# Altium schematic symbol library Hole.SchLib: 3 symbols
Pins are listed as number, name and electrical type; pins without a type are passive.

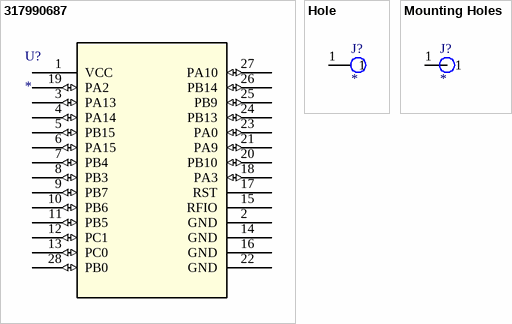
[diagram p0: symbols 317990687 to Mounting Holes]

## 317990687
designator U?
No Description Available; Mfr_Name: BeagleBoard; RefDes: RefDes; Type: Type
footprint QFN_90687_SEE
pins: 1 VCC (power), 2 GND (power), 3 PA13 (io), 4 PA14 (io), 5 PB15 (io), 6 PA15 (io), 7 PB4 (io), 8 PB3 (io), 9 PB7 (io), 10 PB6 (io), 11 PB5 (io), 12 PC1 (io), 13 PC0 (io), 14 GND (power), 15 RFIO, 16 GND (power), 17 RST, 18 PA3 (io), 19 PA2 (io), 20 PB10 (io), 21 PA9 (io), 22 GND (power), 23 PA0 (io), 24 PB13 (io), 25 PB9 (io), 26 PB14 (io), 27 PA10 (io), 28 PB0 (io)

## Hole
designator J?
footprint Hole
pins: 1

## Mounting Holes
designator J?
footprint Mounting Hole
pins: 1